# Altium footprint library EITfootprints.PcbLib: 22 footprints (part 2 of 2)
Each footprint in its own frame and in the unit in brackets; x right, y up, seen from the top. Pads: shape width x height; smd on the part's side, far side on the other; paste and mask are expansions set on the pad; w line width, h text height; cw(c..) or ccw(c..) is an arc to the next point about the centre after c.
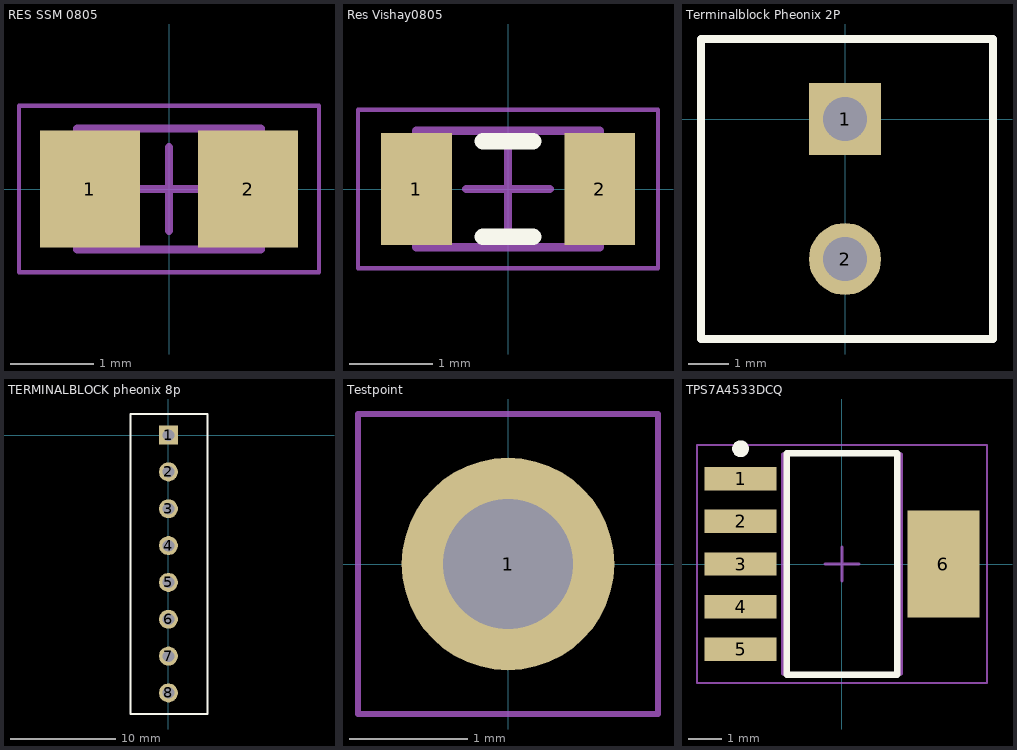
[diagram p1: the footprints below, top view; thin cyan lines are the x and y axes]

## RES SSM 0805 [mm]
height 0.5
pads (2):
  rect 1.2x1.4 smd: 1(-0.95,0) 2(0.95,0)
Mechanical 13:
  lines w0.1: -1.1,-0.725 1.1,-0.725 1.1,0.725 -1.1,0.725 -1.1,-0.725
Mechanical 15:
  lines w0.05: -1.8,-1 1.8,-1 1.8,1 -1.8,1 -1.8,-1
  lines w0.1: -0.5,0 0.5,0 ; 0,-0.5 0,0.5
3D body: height 0.5, standoff 0, extent 0.7,-0.725 1.1,0.725
3D body: height 0.5, standoff 0, extent -1.1,-0.725 -0.7,0.725
3D body: height 0.5, standoff 0, extent -0.7,-0.725 0.7,0.725

## Res Vishay0805 [mm]
height 0.5
pads (2):
  rect 0.85x1.35 smd: 1(-1.1,0) 2(1.1,0)
Top Overlay:
  lines w0.2: -0.3,-0.575 0.3,-0.575 ; -0.3,0.575 0.3,0.575
Mechanical 13:
  lines w0.1: -1.1,-0.7 1.1,-0.7 1.1,0.7 -1.1,0.7 -1.1,-0.7
Mechanical 15:
  lines w0.05: -1.8,-0.95 1.8,-0.95 1.8,0.95 -1.8,0.95 -1.8,-0.95
  lines w0.1: -0.5,0 0.5,0 ; 0,-0.5 0,0.5
3D body: height 0.5, standoff 0, extent 0.79,-0.7 1.1,0.7
3D body: height 0.5, standoff 0, extent -1.1,-0.7 -0.79,0.7
3D body: height 0.5, standoff 0, extent -0.79,-0.7 0.79,0.7

## Terminalblock Pheonix 2P [mm]
pads (2):
  rect 1.8x1.8 hole 1.1: 1(0,0)
  round 1.8 hole 1.1: 2(0,-3.5)
Top Overlay:
  lines w0.2: -3.6,-5.5 3.7,-5.5 3.7,2 -3.6,2 -3.6,-5.5

## TERMINALBLOCK pheonix 8p [mm]
pads (8):
  rect 1.8x1.8 hole 1.1: 1(0,0)
  round 1.8 hole 1.1: 2(0,-3.5) 3(0,-7) 4(0,-10.5) 5(0,-14) 6(0,-17.5) 7(0,-21) 8(0,-24.5)
Top Overlay:
  lines w0.2: -3.6,-26.5 -3.6,2 3.7,2 3.7,-26.5 -3.6,-26.5

## Testpoint [mm]
pads (1):
  round 1.8 hole 1.1: 1(0,0)
Mechanical 15:
  lines w0.05: -1.27,-1.27 -1.27,1.27 1.27,1.27 1.27,-1.27 -1.27,-1.27

## TPS7A4533DCQ [mm] "SOT223, 6-Leads, Body 6,50x7,06mm (avg), Pitch 1,27mm, IPC Medium Density"
height 1.8
pads (6):
  rect 2.15x0.7 smd: 1(-3.025,2.54) 2(-3.025,1.27) 3(-3.025,0) 4(-3.025,-1.27) 5(-3.025,-2.54)
  rect 2.15x3.2 smd: 6(3.025,0)
Top Overlay:
  circle w0.25: c-3.025,3.44 r0.125
  lines w0.2: -1.65,-3.3 1.65,-3.3 1.65,3.3 -1.65,3.3 -1.65,-3.3
Mechanical 13:
  lines w0.1: -1.775,-3.275 1.775,-3.275 1.775,3.275 -1.775,3.275 -1.775,-3.275
Mechanical 15:
  lines w0.05: -4.325,-3.55 4.325,-3.55 4.325,3.55 -4.325,3.55 -4.325,-3.55
  lines w0.1: -0.5,0 0.5,0 ; 0,-0.5 0,0.5
3D body: height 1.8, standoff 0.02, extent -1.775,-3.275 1.775,3.275